# EAGLE library part TFM-107-01-XXX-D-RA (library TFM-105-01-XXX-D-RA)
0.050"X0.050" TERMINAL STRIP.
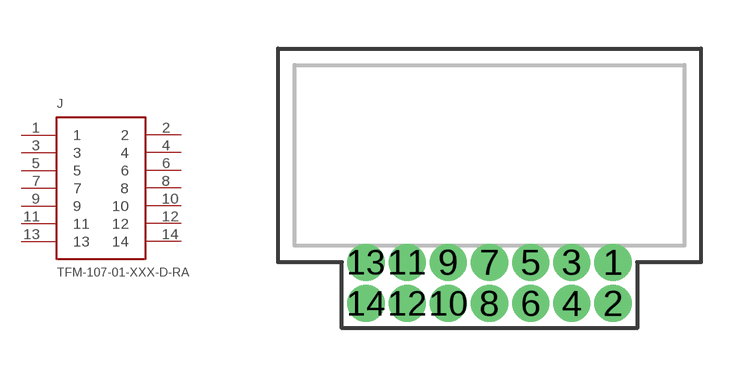
[diagram p0: symbol with the pads of TFM-107-01-XXX-D-RA; footprint TFM-107-01-XXX-D-RA]

Designator prefix J

## TFM-107-01-XXX-D-RA  [TFM-107-01-XXX-D-RA]
1  1
2  2
3  3
4  4
5  5
6  6
7  7
8  8
9  9
10  10
11  11
12  12
13  13
14  14

## Footprint TFM-107-01-XXX-D-RA (pad centres in mm)
0.050"X0.050" TERMINAL STRIP.
drill 0.635 pad 0.965: 1 3.81,0; 2 3.81,-1.27; 3 2.54,0; 4 2.54,-1.27; 5 1.27,0; 6 1.27,-1.27; 7 0,0; 8 0,-1.27; 9 -1.27,0; 10 -1.27,-1.27; 11 -2.54,0; 12 -2.54,-1.27; 13 -3.81,0; 14 -3.81,-1.27